# Altium footprint library Semiconductor.PcbLib: 33 footprints (part 1 of 3)
Each footprint in its own frame and in the unit in brackets; x right, y up, seen from the top. Pads: shape width x height; smd on the part's side, far side on the other; paste and mask are expansions set on the pad; w line width, h text height; cw(c..) or ccw(c..) is an arc to the next point about the centre after c.
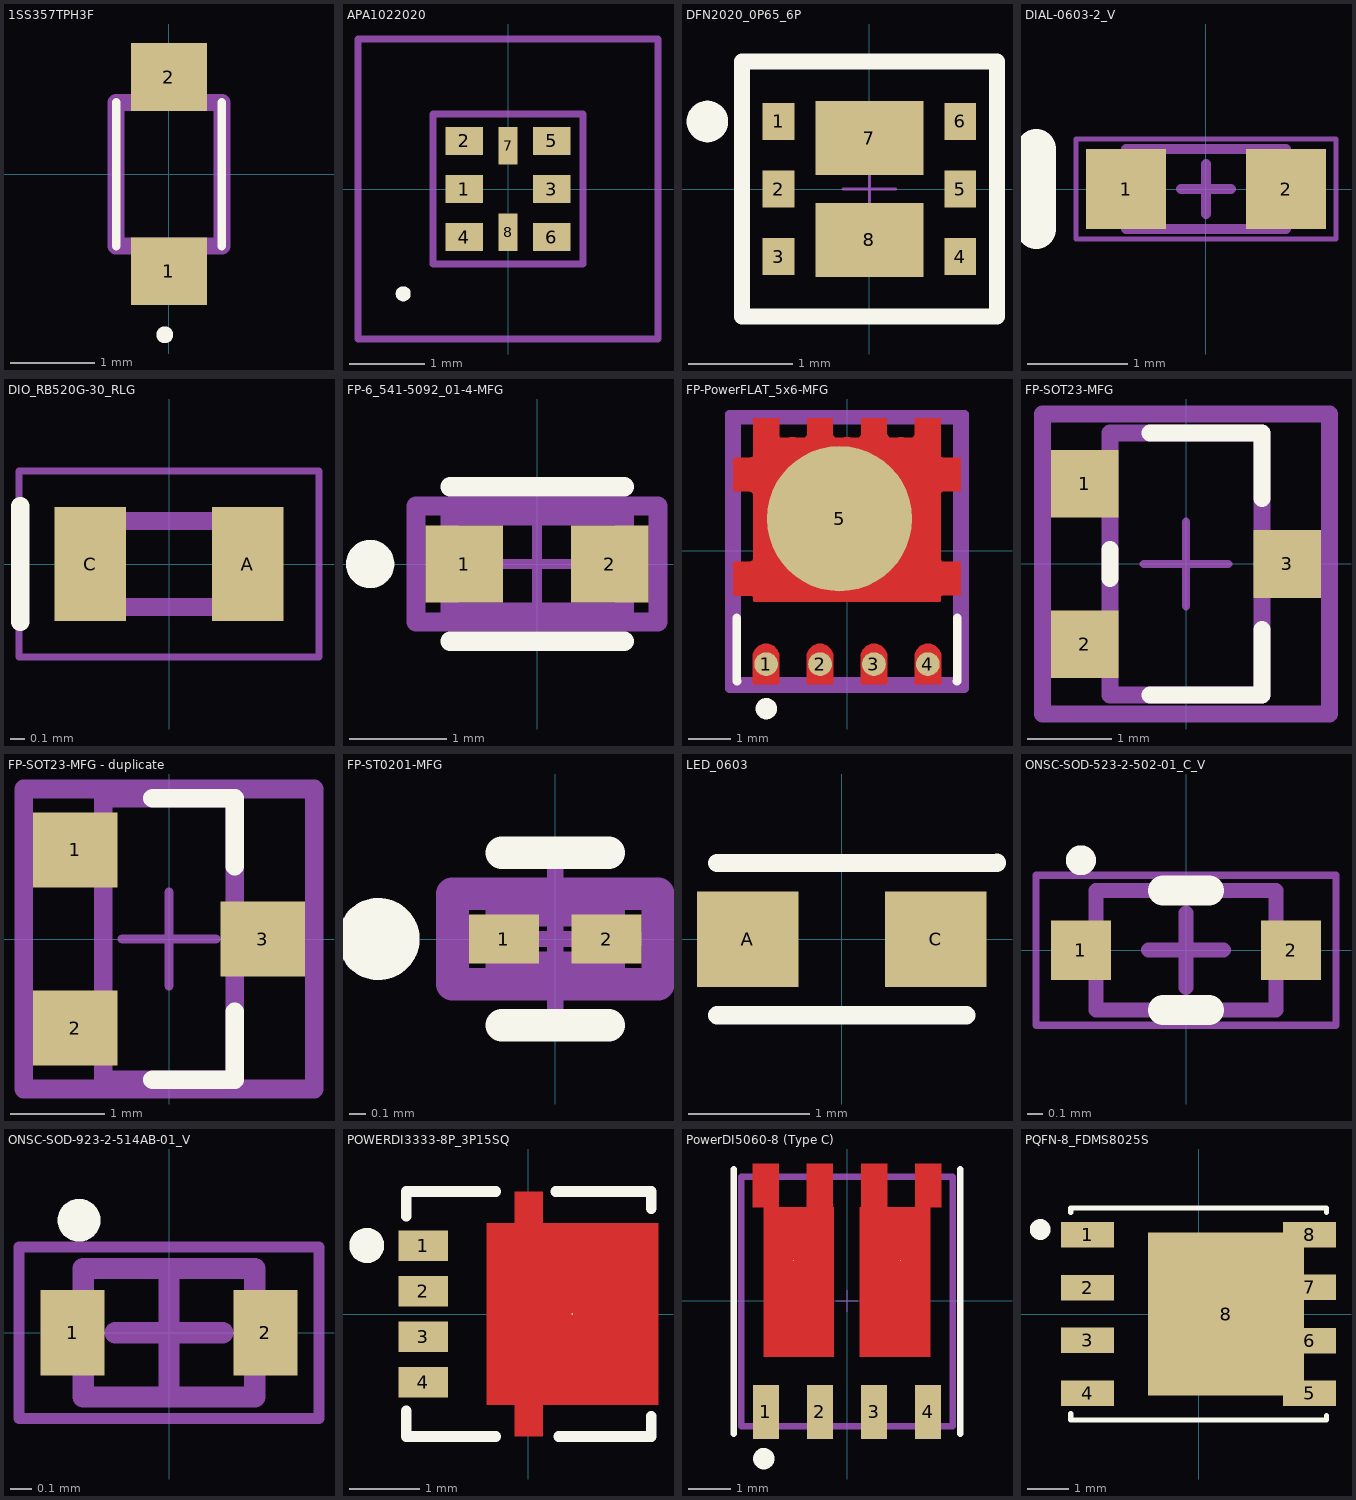
[diagram p0: the footprints below, top view; thin cyan lines are the x and y axes]

## 1SS357TPH3F [mm]
pads (2):
  rect 0.9x0.8 smd: 1(0,-1.15) 2(0,1.15)
Top Overlay:
  lines w0.1: -0.625,-0.85 -0.625,0.85 ; 0.625,-0.85 0.625,0.85 ; -0.1,-1.9 ccw(c-0.05,-1.9) 0,-1.9 ccw(c-0.05,-1.9) -0.1,-1.9
  text ".Designator" at 0.73,-0.44 h0.64
Top 3D Body:
  lines w0.2: -0.625,-0.85 -0.625,0.85 0.625,0.85 0.625,-0.85 -0.625,-0.85
3D body "CUS10S30,H3F.stp": height 0.9, standoff -0.05, extent -0.625,-1.25 0.625,1.25

## APA1022020 [mm]
pads (8):
  rect 0.5x0.37 smd mask+0.051: 1(-0.585,0) 2(-0.585,0.64) 3(0.585,0) 4(-0.585,-0.64) 5(0.585,0.64) 6(0.585,-0.64)
  rect 0.25x0.5 smd mask+0.051: 7(0,0.575) 8(0,-0.575)
Top Overlay:
  lines w0.1: -1.447,-1.397 ccw(c-1.397,-1.397) -1.347,-1.397 ccw(c-1.397,-1.397) -1.447,-1.397
Top 3D Body:
  lines w0.1: -1,-1 1,-1 1,1 -1,1 -1,-1
Top Courtyard:
  lines w0.1: -2,-2 2,-2 2,2 -2,2 -2,-2
3D body "BB-2020BGR-TRB.step": height 0.75, standoff 0, extent -1,-1 1,1

## DFN2020_0P65_6P [mil] "DFN2020_0P65_6P"
pads (8):
  rect 12x14 smd mask+2: 1(-34.45,25.59) 2(-34.45,0) 3(-34.45,-25.59) 4(34.45,-25.59) 5(34.45,0) 6(34.45,25.59)
  rect 41x28 smd mask+2: 7(0,19.29) 8(0,-19.29)
Top Overlay:
  lines w6: -48.34,-48.34 -48.34,48.34 48.34,48.34 48.34,-48.34 -48.34,-48.34
  lines w7.87: -61.42,21.65 cw(c-61.42,25.59) -61.42,29.53 cw(c-61.42,25.59) -61.42,21.65
  text ".Designator" at -105.91,-93.31 h35
Top Component Center:
  lines w1: -10,0 10,0 ; 0,-10 0,10
3D body "PBSS4260PANP,115.stp": height 24.42, standoff -0.07, extent -39.46,-39.37 39.28,39.37

## DIAL-0603-2_V [mm] "LED, 2-Leads, Body 1.6x0.8mm"
height 0.8
pads (2):
  rect 0.8x0.8 smd: 1(-0.8,0) 2(0.8,0)
Top Overlay:
  lines w0.4: -1.7,-0.4 -1.7,0.4
Top 3D Body:
  lines w0.1: -0.8,-0.4 0.8,-0.4 0.8,0.4 -0.8,0.4 -0.8,-0.4
Top Courtyard:
  lines w0.05: -1.3,-0.5 1.3,-0.5 1.3,0.5 -1.3,0.5 -1.3,-0.5
  lines w0.1: -0.25,0 0.25,0 ; 0,-0.25 0,0.25
3D body "0603_single.stp": height 0.71, standoff -0.01, extent -0.813,-0.394 0.813,0.394

## DIO_RB520G-30_RLG [mm]
height 0.625
pads (2):
  rect 0.5x0.8 smd: A(0.55,0) C(-0.55,0)
Top Overlay:
  lines w0.127: -1.041,-0.406 -1.041,0.406
Top 3D Body:
  lines w0.127: -0.5,-0.3 -0.5,0.3 0.5,0.3 0.5,-0.3 -0.5,-0.3
Top Courtyard:
  lines w0.05: -1.05,-0.65 -1.05,0.65 1.05,0.65 1.05,-0.65 -1.05,-0.65
3D body "step_temp.STEP": height 0.63, standoff 0, extent -0.7,-0.3 0.7,0.3

## FP-6_541-5092_01-4-MFG [mm]
pads (2):
  rect 0.8x0.8 smd paste+0 mask+0: 1(-0.75,0) 2(0.75,0)
Top Overlay:
  circle w0.25: c-1.725,0 r0.125
  lines w0.2: -0.9,-0.8 0.9,-0.8 ; -0.9,0.8 0.9,0.8
Top Assembly:
  lines w0.2: -1.25,-0.6 -1.25,0.6 1.25,0.6 1.25,-0.6 -1.25,-0.6
  text ".Designator" at 0,-0.001 h1
Top 3D Body:
  lines w0.2: -0.9,-0.5 -0.9,0.5 0.9,0.5 0.9,-0.5 -0.9,-0.5
Top Courtyard:
  lines w0.2: -1.25,-0.6 -1.25,0.6 1.25,0.6 1.25,-0.6 -1.25,-0.6
Top Component Center:
  lines w0.1: -0.5,0 0.5,0 ; 0,-0.5 0,0.5
3D body "Diode_Vishay_VLMY1300-GS08_eec.STEP": height 0.25, standoff 0, extent -1.25,-0.6 1.25,0.6

## FP-PowerFLAT_5x6-MFG [mm]
pads (5):
  round 0.558 smd paste+0 mask+0: 1(-1.905,-2.67) 2(-0.635,-2.67) 3(0.635,-2.67) 4(1.905,-2.67)
  round 3.42 smd paste+0 mask+0: 5(-0.175,0.755)
Top Layer:
  region: -2.205,2.265 -2.205,3.12 -1.6,3.12 -1.6,2.718 -1.599,2.705 -1.589,2.683 -1.572,2.666 -1.55,2.656 -1.537,2.655 -1.474,2.661 -1.346,2.667 -1.219,2.667 -1.092,2.661 -1.028,2.655 -1.011,2.657 -0.979,2.67 -0.955,2.694 -0.942,2.726 -0.94,2.743 -0.94,3.12 -0.33,3.12 -0.33,2.74 -0.328,2.724 -0.316,2.694 -0.292,2.672 -0.262,2.661 -0.246,2.66 -0.184,2.664 -0.061,2.667 0.061,2.667 0.184,2.664 0.246,2.66 0.262,2.661 0.292,2.672 0.316,2.694 0.328,2.724 0.33,2.74 0.33,3.12 0.94,3.12 0.94,2.768 0.942,2.746 0.959,2.705 0.99,2.674 1.031,2.657 1.053,2.655 1.107,2.661 1.216,2.667 1.324,2.667 1.433,2.661 1.487,2.655 1.509,2.657 1.55,2.674 1.581,2.705 1.598,2.746 1.6,2.768 1.6,3.12 2.205,3.12 2.205,2.24 2.206,2.231 2.213,2.215 2.225,2.203 2.241,2.196 2.25,2.195 2.675,2.195 2.675,1.395 2.259,1.395 2.248,1.394 2.229,1.386 2.214,1.371 2.206,1.352 2.205,1.341 2.205,-0.198 2.206,-0.209 2.215,-0.23 2.23,-0.245 2.251,-0.254 2.262,-0.255 2.675,-0.255 2.675,-1.055 2.247,-1.055 2.239,-1.056 2.224,-1.062 2.212,-1.074 2.206,-1.089 2.205,-1.097 2.205,-1.173 2.205,-1.18 2.2,-1.191 2.191,-1.2 2.18,-1.205 2.173,-1.205 -2.173,-1.205 -2.18,-1.205 -2.191,-1.2 -2.2,-1.191 -2.205,-1.18 -2.205,-1.173 -2.205,-1.122 -2.206,-1.109 -2.216,-1.085 -2.235,-1.066 -2.259,-1.056 -2.272,-1.055 -2.675,-1.055 -2.675,-0.255 -2.287,-0.255 -2.271,-0.253 -2.241,-0.241 -2.219,-0.219 -2.207,-0.189 -2.205,-0.173 -2.205,1.291 -2.207,1.311 -2.223,1.349 -2.251,1.377 -2.289,1.393 -2.309,1.395 -2.675,1.395 -2.675,2.195 -2.275,2.195 -2.262,2.196 -2.236,2.207 -2.217,2.226 -2.206,2.252
  region: -2.215,-3.145 -2.215,-2.505 -2.215,-2.443 -2.168,-2.329 -2.081,-2.242 -1.967,-2.195 -1.905,-2.195 -1.843,-2.195 -1.729,-2.242 -1.642,-2.329 -1.595,-2.443 -1.595,-2.505 -1.595,-3.145
  region: -0.945,-3.145 -0.945,-2.505 -0.945,-2.443 -0.898,-2.329 -0.811,-2.242 -0.697,-2.195 -0.635,-2.195 -0.573,-2.195 -0.459,-2.242 -0.372,-2.329 -0.325,-2.443 -0.325,-2.505 -0.325,-3.145
  region: 0.325,-3.145 0.325,-2.505 0.325,-2.443 0.372,-2.329 0.459,-2.242 0.573,-2.195 0.635,-2.195 0.697,-2.195 0.811,-2.242 0.898,-2.329 0.945,-2.443 0.945,-2.505 0.945,-3.145
  region: 1.595,-3.145 1.595,-2.505 1.595,-2.443 1.642,-2.329 1.729,-2.242 1.843,-2.195 1.905,-2.195 1.967,-2.195 2.081,-2.242 2.168,-2.329 2.215,-2.443 2.215,-2.505 2.215,-3.145
Top Overlay:
  circle w0.25: c-1.9,-3.72 r0.125
  lines w0.2: -2.6,-1.58 -2.6,-3.075 -2.59,-3.075 ; 2.59,-3.075 2.6,-3.075 2.6,-1.58
  text ".Designator" at -2.08,3.568 h1
Top Assembly:
  lines w0.2: -2.775,-3.245 2.775,-3.245 2.775,3.22 -2.775,3.22 -2.775,-3.245
Top 3D Body:
  lines w0.2: -2.6,-3.075 2.6,-3.075 2.6,3.075 -2.6,3.075 -2.6,-3.075
Top Courtyard:
  lines w0.2: -2.775,-3.245 2.775,-3.245 2.775,3.22 -2.775,3.22 -2.775,-3.245
Top Component Center:
  lines w0.1: -0.5,0 0.5,0 ; 0,-0.5 0,0.5
3D body "Diode_STMicroelectronics_STPS30L30DJF-TR_eec.STEP": height 0.25, standoff 0, extent -2.775,-3.245 2.775,3.22

## FP-SOT23-MFG [mm]
pads (3):
  rect 0.8x0.8 smd paste+0: 1(-1.2,0.95) 2(-1.2,-0.95) 3(1.2,0)
Top Overlay:
  lines w0.2: -0.9,-0.175 -0.9,0.175 ; -0.425,-1.55 0.9,-1.55 0.9,-0.775 ; -0.425,1.55 0.9,1.55 0.9,0.775
  text ".Designator" at -2.19,-2.642 h1
Top Assembly:
  lines w0.2: -1.7,-1.777 -1.7,1.777 1.7,1.777 1.7,-1.777 -1.7,-1.777
Top 3D Body:
  lines w0.2: -0.9,-1.55 -0.9,1.55 0.9,1.55 0.9,-1.55 -0.9,-1.55
Top Courtyard:
  lines w0.2: -1.7,-1.777 -1.7,1.777 1.7,1.777 1.7,-1.777 -1.7,-1.777
Top Component Center:
  lines w0.1: -0.5,0 0.5,0 ; 0,-0.5 0,0.5
3D body "Trans_Alpha_&_Omega_Semiconductor_AO3400A_eec.STEP": height 0.25, standoff 0, extent -1.7,-1.777 1.7,1.777

## FP-SOT23-MFG - duplicate [mm]
pads (3):
  rect 0.9x0.8 smd paste+0: 1(-1,0.95) 2(-1,-0.95) 3(1,0)
Top Overlay:
  lines w0.2: -0.175,-1.5 0.7,-1.5 0.7,-0.775 ; -0.175,1.5 0.7,1.5 0.7,0.775
Top Assembly:
  lines w0.2: -1.55,-1.6 1.55,-1.6 1.55,1.6 -1.55,1.6 -1.55,-1.6
  text ".Designator" at 0,-0.001 h1
Top 3D Body:
  lines w0.2: -0.7,-1.5 0.7,-1.5 0.7,1.5 -0.7,1.5 -0.7,-1.5
Top Courtyard:
  lines w0.2: -1.55,-1.6 1.55,-1.6 1.55,1.6 -1.55,1.6 -1.55,-1.6
Top Component Center:
  lines w0.1: -0.5,0 0.5,0 ; 0,-0.5 0,0.5
3D body "Diode_Diodes_Inc_BZX84C18-7-F_eec.STEP": height 0.25, standoff 0, extent -1.55,-1.6 1.55,1.6

## FP-ST0201-MFG [mm]
pads (2):
  rect 0.425x0.3 smd paste-1000 mask+0: 1(-0.312,0) 2(0.312,0)
Top Overlay:
  circle w0.25: c-1.075,0 r0.125
  lines w0.2: -0.325,-0.525 0.325,-0.525 ; -0.325,0.525 0.325,0.525
Top Paste:
  rectangle: -0.485,-0.112 -0.165,0.113
  rectangle: 0.167,-0.112 0.487,0.113
Top Assembly:
  lines w0.2: -0.625,-0.275 0.625,-0.275 0.625,0.275 -0.625,0.275 -0.625,-0.275
  text ".Designator" at 0,0.188 h1
Top 3D Body:
  lines w0.2: -0.325,-0.175 0.325,-0.175 0.325,0.175 -0.325,0.175 -0.325,-0.175
Top Courtyard:
  lines w0.2: -0.625,-0.275 0.625,-0.275 0.625,0.275 -0.625,0.275 -0.625,-0.275
Top Component Center:
  lines w0.1: -0.5,0 0.5,0 ; 0,-0.5 0,0.5
3D body "Diode_STMicroelectronics_ESDALC6V1-1U2_eec.STEP": height 0.25, standoff 0, extent -0.625,-0.275 0.625,0.275

## LED_0603 [mil] "LED_0603"
pads (2):
  rect 33x31 smd: A(-30.51,0) C(30.51,0)
Top Overlay:
  lines w6: -40.47,-24.72 40.47,-24.72 ; -40.47,24.72 50.39,24.8
  text ".Designator" at -126.38,-74.02 h35
3D body "HSMD-C191.stp": height -13.84, standoff -37.62, extent -31.5,-15.75 31.5,15.75

## ONSC-SOD-523-2-502-01_C_V [mm] "SOD, 2-Leads, Body 1.2x0.8mm"
height 0.7
pads (2):
  rect 0.4x0.4 smd: 1(-0.7,0) 2(0.7,0)
Top Overlay:
  circle w0.1: c-0.7,0.6 r0.05
  lines w0.2: -0.154,-0.4 0.154,-0.4 ; -0.154,0.4 0.154,0.4
Top 3D Body:
  lines w0.1: -0.6,-0.4 0.6,-0.4 0.6,0.4 -0.6,0.4 -0.6,-0.4
Top Courtyard:
  lines w0.05: -1,-0.5 1,-0.5 1,0.5 -1,0.5 -1,-0.5
  lines w0.1: -0.25,0 0.25,0 ; 0,-0.25 0,0.25
3D body: height 0.7, standoff 0, extent -0.6,-0.4 0.6,0.4

## ONSC-SOD-923-2-514AB-01_V [mm] "SOD, 2-Leads, Body 0.8x0.6mm"
height 0.4
pads (2):
  rect 0.3x0.4 smd: 1(-0.45,0) 2(0.45,0)
Top Overlay:
  circle w0.1: c-0.42,0.525 r0.05
Top 3D Body:
  lines w0.1: -0.4,-0.3 0.4,-0.3 0.4,0.3 -0.4,0.3 -0.4,-0.3
Top Courtyard:
  lines w0.05: -0.7,-0.4 0.7,-0.4 0.7,0.4 -0.7,0.4 -0.7,-0.4
  lines w0.1: -0.25,0 0.25,0 ; 0,-0.25 0,0.25
3D body: height 0.4, standoff 0, extent -0.4,-0.3 0.4,0.3

## POWERDI3333-8P_3P15SQ [mil] "POWERDI3333-8P_3P15SQ"
pads (5):
  rect 28x17 smd mask+3: 1(-59.06,38.39) 2(-59.06,12.8) 3(-59.06,-12.8) 4(-59.06,-38.39)
  round 1 smd: 5(24.83,0)
Top Layer:
  region: -23.4,-51.18 -7.65,-51.18 -7.65,-68.9 8.1,-68.9 8.1,-51.18 73.06,-51.18 73.06,51.18 8.1,51.18 8.1,68.9 -7.65,68.9 -7.65,51.18 -23.4,51.18
Top Overlay:
  circle w9.84: c-90.94,38.58 r4.92
  lines w6: -68.79,-54.64 -68.79,-69.01 -18.26,-69.01 ; -68.79,55.09 -68.79,69.01 -18.26,69.01 ; 15.52,69.01 69.23,69.01 69.23,59.4 ; 17.12,-69.01 69.23,-69.01 69.23,-57.67
  text ".Designator" at -120.47,-127.17 h35
Top Paste:
  dashed: 71.09,-46.65 71.09,-30.12 43.53,-30.12 43.53,-46.65
  dashed: 71.09,-21.06 71.09,-4.53 43.53,-4.53 43.53,-21.06
  dashed: 71.09,4.53 71.09,21.06 43.53,21.06 43.53,4.53
  dashed: 71.09,30.12 71.09,46.65 43.53,46.65 43.53,30.12
  dashed: -6.67,-68.09 7.08,-68.09 7.08,-52.77 -6.67,-52.77
  dashed: -6.67,52.77 7.08,52.77 7.08,68.09 -6.67,68.09
  dashed: -17.65,-44.68 36.2,-44.68 36.2,-19.61 -17.65,-19.61
  dashed: -17.65,-12.53 36.2,-12.53 36.2,12.54 -17.65,12.54
  dashed: -17.65,19.62 36.2,19.62 36.2,44.69 -17.65,44.69
3D body "step_temp.STEP": height 35.43, standoff 0, extent -64.96,-64.96 64.96,64.96

## PowerDI5060-8 (Type C) [mil] "PowerDI5060-8 (Type C)"
pads (6):
  rect 24x50 smd: 1(-75,-102.48) 2(-25,-102.48) 3(25,-102.48) 4(75,-102.48)
  round 1 smd: 5(49.5,37.48) 6(-49.51,37.48)
Top Layer:
  region: -12.01,-51.5 -12.01,86.3 -12.99,86.3 -12.99,126.46 -37.01,126.46 -37.01,86.3 -62.99,86.3 -62.99,126.46 -87.01,126.46 -87.01,86.3 -76.97,86.3 -76.97,-51.5
  region: 12,-51.5 12,86.3 12.98,86.3 12.98,126.46 37,126.46 37,86.3 62.98,86.3 62.98,126.46 87,126.46 87,86.3 76.96,86.3 76.96,-51.5
Top Overlay:
  circle w9.84: c-76.77,-145.67 r4.92
  lines w6: -104.45,-122.67 -104.45,121.65 ; 104.45,-122.67 104.45,121.65
  text ".Designator" at 165,-120.51 h35
Top Paste:
  dashed: 83.41,91.23 66.59,91.23 66.59,121.84 83.41,121.84
  dashed: 33.65,91.23 16.83,91.23 16.83,121.84 33.65,121.84
  dashed: 67.83,23.27 21.14,23.27 21.14,77.2 67.83,77.2
  dashed: 67.83,-41.6 21.14,-41.6 21.14,12.34 67.83,12.34
  dashed: -21.1,-41.6 -67.8,-41.6 -67.8,12.34 -21.1,12.34
  dashed: -21.1,23.27 -67.8,23.27 -67.8,77.2 -21.1,77.2
  dashed: -16.59,91.23 -33.41,91.23 -33.41,121.84 -16.59,121.84
  dashed: -67.18,91.23 -84,91.23 -84,121.84 -67.18,121.84
Top Assembly:
  lines w6: -97.44,-115.67 -97.44,114.65 97.44,114.65 97.44,-115.67 -97.44,-115.67
Top Component Center:
  lines w1: -10,0 10,0 ; 0,-10 0,10
Bottom Courtyard:
  text "3" at 33,-102.48 h20
  text "1" at -67,-102.48 h20
  text "6" at -41.51,37.48 h20
  text "5" at 57.5,37.48 h20
  text "4" at 83,-102.48 h20
  text "2" at -17,-102.48 h20
3D body "DMTH4011SPD-13.stp": height 39.37, standoff 0, extent -101.38,-121.06 101.38,121.06

## PQFN-8_FDMS8025S [mm]
pads (9):
  rect 1.27x0.61 smd: 1(-2.67,1.905) 2(-2.67,0.635) 3(-2.67,-0.635) 4(-2.67,-1.905) 5(2.67,-1.905) 6(2.67,-0.64) 7(2.67,0.64) 8(2.67,1.905)
  rect 3.75x3.91 smd: 8(0.66,0)
Top Overlay:
  circle w0.3: c-3.81,2.032 r0.1
  lines w0.127: -3.075,-2.4 -3.075,-2.55 2.887,-2.55 3.075,-2.55 3.075,-2.45 ; -3.075,2.45 -3.075,2.55 2.887,2.55 3.075,2.55 3.075,2.45
  text ".Designator" at -1.48,3.17 h0.64
3D body "FDMS8025S.stp": height 1.1, standoff 0, extent -3.075,-2.5 3.071,2.5